# Altium schematic symbol library ZC142200.SchLib: 1 symbol
Pins are listed as number, name and electrical type; pins without a type are passive.

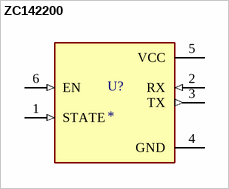
[diagram p0: symbol ZC142200]

## ZC142200
designator U?
1pc HC-05 6 Pin Wireless Bluetooth RF Transceiver Module Serial For Arduino; MF: YKS; MP: ZC142200; SnapEDA_Link: https://www.snapeda.com/parts/ZC142200/YKS/view-part/?ref=snap; Package: None; Value: *; Check_prices: https://www.snapeda.com/parts/ZC142200/YKS/view-part/?ref=eda
footprint MODULE_ZC142200
pins: 1 STATE (in), 2 RX (in), 3 TX (out), 4 GND (power), 5 VCC (power), 6 EN (in)